# Altium footprint library VS-75EPU12L-N3.PcbLib: 1 footprints
Each footprint in its own frame and in the unit in brackets; x right, y up, seen from the top. Pads: shape width x height; smd on the part's side, far side on the other; paste and mask are expansions set on the pad; w line width, h text height; cw(c..) or ccw(c..) is an arc to the next point about the centre after c.
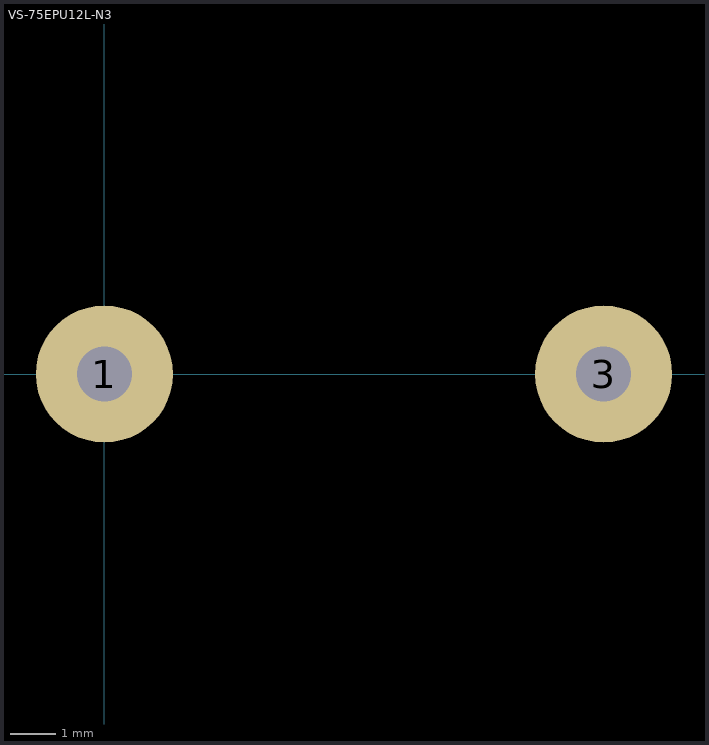
[diagram p0: the footprint, top view; thin cyan lines are the x and y axes]

## VS-75EPU12L-N3 [mm] "VS-75EPU12L-N3"
pads (2):
  round 3 hole 1.2: 1(0,0) 3(10.922,0)
3D body "VS-75EPU12L-N3.SLDPRT": height 5.4, standoff -6, extent -2.439,-0.381 13.361,25.319